# EAGLE library part CHERRY-1U-SK6812-LED (library Cherry-SK6812)
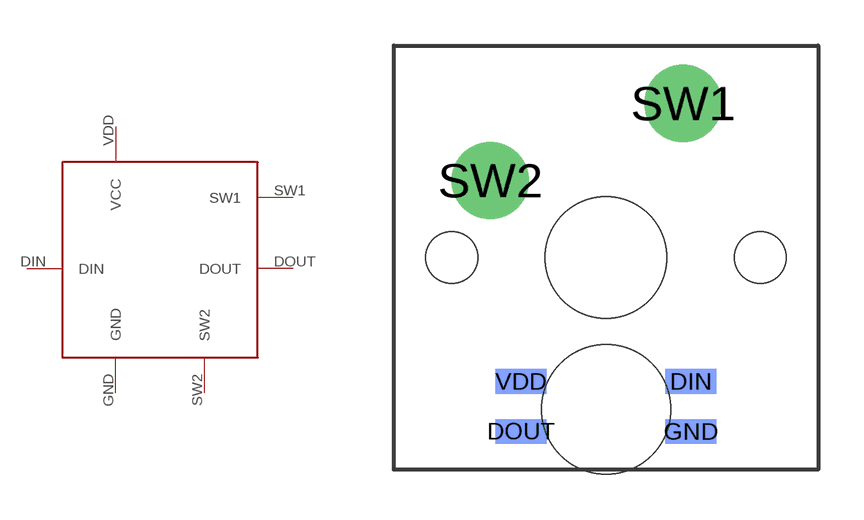
[diagram p0: symbol with the pads of CHERRY-1U-SK6812-LED; footprint CHERRY-1U-SK6812-LED]

Designator prefix -

## CHERRY-1U-SK6812-LED  [CHERRY-1U-SK6812-LED]
DIN  DIN
DOUT  DOUT
GND  GND
SW1  SW1
SW2  SW2
VDD  VCC

## Footprint CHERRY-1U-SK6812-LED (pad centres in mm)
smd 1.676 x 0.813 bottom: DIN 2.8,-4.075; DOUT -2.8,-5.725; GND 2.8,-5.725; VDD -2.8,-4.075
drill 1.3 pad 2.54: SW1 2.54,5.08; SW2 -3.81,2.54
hole 4 at 0,0
hole 1.7 at 5.08,0
hole 1.7 at -5.08,0
hole 4.25 at 0,-5